# EAGLE library part ATMEGA328 (library custom)
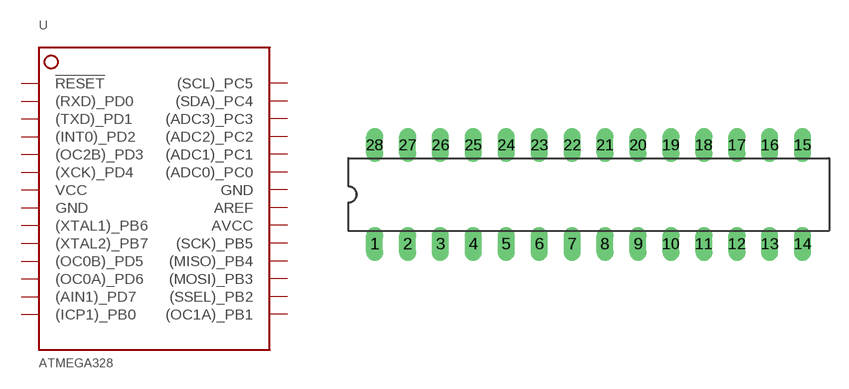
[diagram p16: symbol with the pads of DIL28-3; footprint DIL28-3]

Designator prefix -

## ATMEGA328  [DIL28-3]
1  !RESET
2  (RXD)_PD0
3  (TXD)_PD1
4  (INT0)_PD2
5  (OC2B)_PD3
6  (XCK)_PD4
7  VCC
8  GND
9  (XTAL1)_PB6
10  (XTAL2)_PB7
11  (OC0B)_PD5
12  (OC0A)_PD6
13  (AIN1)_PD7
14  (ICP1)_PB0
15  (OC1A)_PB1
16  (SSEL)_PB2
17  (MOSI)_PB3
18  (MISO)_PB4
19  (SCK)_PB5
20  AVCC
21  AREF
22  GND
23  (ADC0)_PC0
24  (ADC1)_PC1
25  (ADC2)_PC2
26  (ADC3)_PC3
27  (SDA)_PC4
28  (SCL)_PC5

## Footprint DIL28-3 (pad centres in mm)
Dual In Line 0.3 inch
drill 0.813 long: 1 -16.51,-3.81; 2 -13.97,-3.81; 3 -11.43,-3.81; 4 -8.89,-3.81; 5 -6.35,-3.81; 6 -3.81,-3.81; 7 -1.27,-3.81; 8 1.27,-3.81; 9 3.81,-3.81; 10 6.35,-3.81; 11 8.89,-3.81; 12 11.43,-3.81; 13 13.97,-3.81; 14 16.51,-3.81; 15 16.51,3.81; 16 13.97,3.81; 17 11.43,3.81; 18 8.89,3.81; 19 6.35,3.81; 20 3.81,3.81; 21 1.27,3.81; 22 -1.27,3.81; 23 -3.81,3.81; 24 -6.35,3.81; 25 -8.89,3.81; 26 -11.43,3.81; 27 -13.97,3.81; 28 -16.51,3.81